# EAGLE library part 3_3/5V_LEVELCONVERTER (library LogicLevelConv_Kastl)
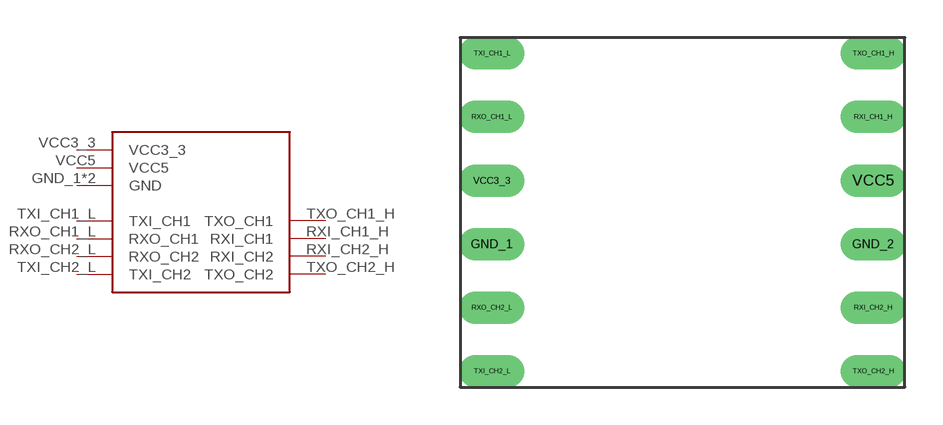
[diagram p0: symbol with the pads of 12P/15.24MM; footprint 12P/15.24MM]

Designator prefix -

## 3_3/5V_LEVELCONVERTER  [12P/15.24MM]
GND_1  GND
GND_2  GND
RXI_CH1_H  RXI_CH1
RXI_CH2_H  RXI_CH2
RXO_CH1_L  RXO_CH1
RXO_CH2_L  RXO_CH2
TXI_CH1_L  TXI_CH1
TXI_CH2_L  TXI_CH2
TXO_CH1_H  TXO_CH1
TXO_CH2_H  TXO_CH2
VCC3_3  VCC3_3
VCC5  VCC5

## Footprint 12P/15.24MM (pad centres in mm)
drill 0.8 long: GND_1 -7.62,-1.27; GND_2 7.62,-1.27; RXI_CH1_H 7.62,3.81; RXI_CH2_H 7.62,-3.81; RXO_CH1_L -7.62,3.81; RXO_CH2_L -7.62,-3.81; TXI_CH1_L -7.62,6.35; TXI_CH2_L -7.62,-6.35; TXO_CH1_H 7.62,6.35; TXO_CH2_H 7.62,-6.35; VCC3_3 -7.62,1.27; VCC5 7.62,1.27